# EAGLE library part NRF24L01 (library tx)
2.4GHz Low Power Transceiver This is the very popular, low cost, very low power RF transceiver from Nordic Semiconductor. Simple SPI interface. SKU: COM-00690
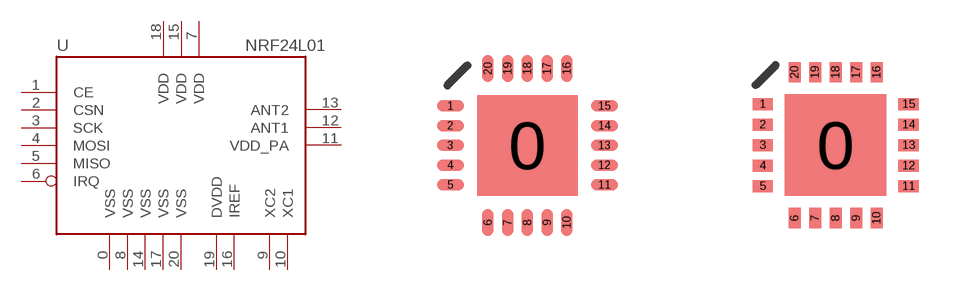
[diagram p2: symbol with the pads of QFN20_ALT1; footprints QFN20_ALT1, QFN20_ALT2]

Designator prefix -

## NRF24L01ALT1  [QFN20_ALT1]
0  VSS  pwr
1  CE  in
2  CSN  in
3  SCK  in
4  MOSI  in
5  MISO  out
6  IRQ  out
7  VDD  pwr
8  VSS  pwr
9  XC2  in
10  XC1  in
11  VDD_PA  pwr
12  ANT1  out
13  ANT2  out
14  VSS  pwr
15  VDD  pwr
16  IREF  in
17  VSS  pwr
18  VDD  pwr
19  DVDD  pwr
20  VSS  pwr

## NRF24L01ALT2  [QFN20_ALT2]
Pads as for QFN20_ALT1

## NRF24L01SMD  [QFN20]
Pads as for QFN20_ALT1

## Footprint QFN20_ALT1 (pad centres in mm)
smd 2.515 x 2.515: 0 0,0
smd 0.686 x 0.293: 1 -1.925,0.986; 2 -1.925,0.493; 3 -1.925,0; 4 -1.925,-0.493; 5 -1.925,-0.986; 11 1.925,-0.986; 12 1.925,-0.493; 13 1.925,0; 14 1.925,0.493; 15 1.925,0.986
smd 0.293 x 0.686: 6 -0.986,-1.925; 7 -0.493,-1.925; 8 0,-1.925; 9 0.493,-1.925; 10 0.986,-1.925; 16 0.986,1.925; 17 0.493,1.925; 18 0,1.925; 19 -0.493,1.925; 20 -0.986,1.925

## Footprint QFN20_ALT2 (pad centres in mm)
smd 2.54 x 2.54: 0 0,0
smd 0.508 x 0.3: 1 -1.824,1.025; 2 -1.824,0.513; 3 -1.824,0; 4 -1.824,-0.513; 5 -1.824,-1.025; 11 1.824,-1.025; 12 1.824,-0.513; 13 1.824,0; 14 1.824,0.513; 15 1.824,1.025
smd 0.3 x 0.508: 6 -1.025,-1.824; 7 -0.513,-1.824; 8 0,-1.824; 9 0.513,-1.824; 10 1.025,-1.824; 16 1.025,1.824; 17 0.513,1.824; 18 0,1.824; 19 -0.513,1.824; 20 -1.025,1.824

## Footprint QFN20 (pad centres in mm)
smd 1 x 1: 0 0,0
smd 0.65 x 0.3: 1 -1.9,1; 2 -1.9,0.5; 3 -1.9,0; 4 -1.9,-0.5; 5 -1.9,-1; 11 1.9,-1; 12 1.9,-0.5; 13 1.9,0; 14 1.9,0.5; 15 1.9,1
smd 0.3 x 0.65: 6 -1,-1.9; 7 -0.5,-1.9; 8 0,-1.9; 9 0.5,-1.9; 10 1,-1.9; 16 1,1.9; 17 0.5,1.9; 18 0,1.9; 19 -0.5,1.9; 20 -1,1.9